# EAGLE library part 8051F000 (library cygnal)
8051F000
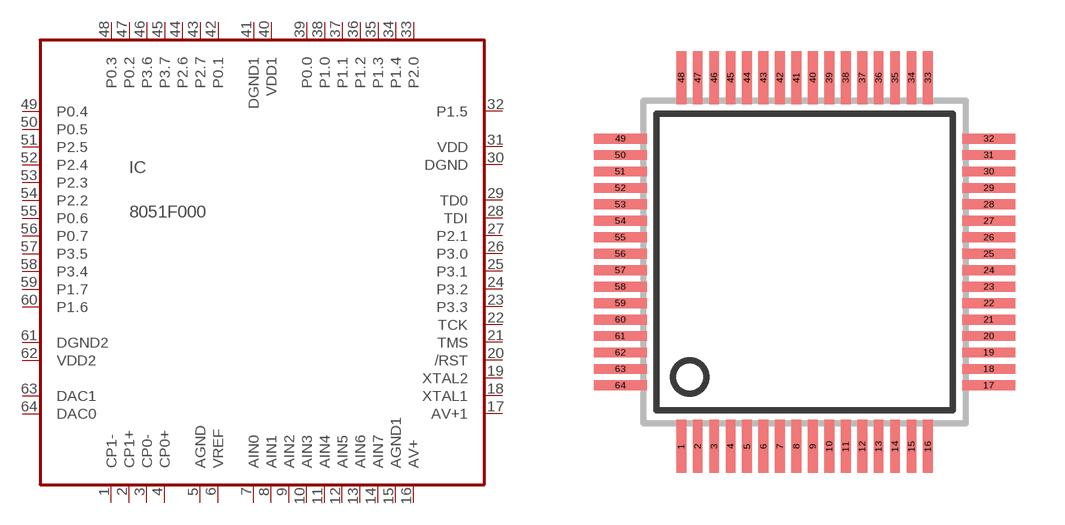
[diagram p2: symbol with the pads of TQFP64; footprint TQFP64]

Designator prefix IC

## 8051F000  [TQFP64]
1  CP1-  in
2  CP1+  in
3  CP0-  in
4  CP0+  in
5  AGND  pwr
6  VREF  out
7  AIN0  in
8  AIN1  in
9  AIN2  in
10  AIN3  in
11  AIN4  in
12  AIN5  in
13  AIN6  in
14  AIN7  in
15  AGND1  pwr
16  AV+  pwr
17  AV+1  pwr
18  XTAL1  in
19  XTAL2  out
20  /RST  in
21  TMS  in
22  TCK  in
23  P3.3
24  P3.2
25  P3.1
26  P3.0
27  P2.1
28  TDI  in
29  TD0  out
30  DGND  pwr
31  VDD  pwr
32  P1.5
33  P2.0
34  P1.4
35  P1.3
36  P1.2
37  P1.1
38  P1.0
39  P0.0
40  VDD1  pwr
41  DGND1  pwr
42  P0.1
43  P2.7
44  P2.6
45  P3.7
46  P3.6
47  P0.2
48  P0.3
49  P0.4
50  P0.5
51  P2.5
52  P2.4
53  P2.3
54  P2.2
55  P0.6
56  P0.7
57  P3.5
58  P3.4
59  P1.7
60  P1.6
61  DGND2  pwr
62  VDD2  pwr
63  DAC1  out
64  DAC0  out

## Footprint TQFP64 (pad centres in mm)
TQFP64
smd 0.3 x 1.6: 1 -3.75,-5.6; 2 -3.25,-5.6; 3 -2.75,-5.6; 4 -2.25,-5.6; 5 -1.75,-5.6; 6 -1.25,-5.6; 7 -0.75,-5.6; 8 -0.25,-5.6; 9 0.25,-5.6; 10 0.75,-5.6; 11 1.25,-5.6; 12 1.75,-5.6; 13 2.25,-5.6; 14 2.75,-5.6; 15 3.25,-5.6; 16 3.75,-5.6; 33 3.75,5.6; 34 3.25,5.6; 35 2.75,5.6; 36 2.25,5.6; 37 1.75,5.6; 38 1.25,5.6; 39 0.75,5.6; 40 0.25,5.6; 41 -0.25,5.6; 42 -0.75,5.6; 43 -1.25,5.6; 44 -1.75,5.6; 45 -2.25,5.6; 46 -2.75,5.6; 47 -3.25,5.6; 48 -3.75,5.6
smd 1.6 x 0.3: 17 5.6,-3.75; 18 5.6,-3.25; 19 5.6,-2.75; 20 5.6,-2.25; 21 5.6,-1.75; 22 5.6,-1.25; 23 5.6,-0.75; 24 5.6,-0.25; 25 5.6,0.25; 26 5.6,0.75; 27 5.6,1.25; 28 5.6,1.75; 29 5.6,2.25; 30 5.6,2.75; 31 5.6,3.25; 32 5.6,3.75; 49 -5.6,3.75; 50 -5.6,3.25; 51 -5.6,2.75; 52 -5.6,2.25; 53 -5.6,1.75; 54 -5.6,1.25; 55 -5.6,0.75; 56 -5.6,0.25; 57 -5.6,-0.25; 58 -5.6,-0.75; 59 -5.6,-1.25; 60 -5.6,-1.75; 61 -5.6,-2.25; 62 -5.6,-2.75; 63 -5.6,-3.25; 64 -5.6,-3.75